# EAGLE library part STM32F042K6T6 (library PI_Shield_Library)
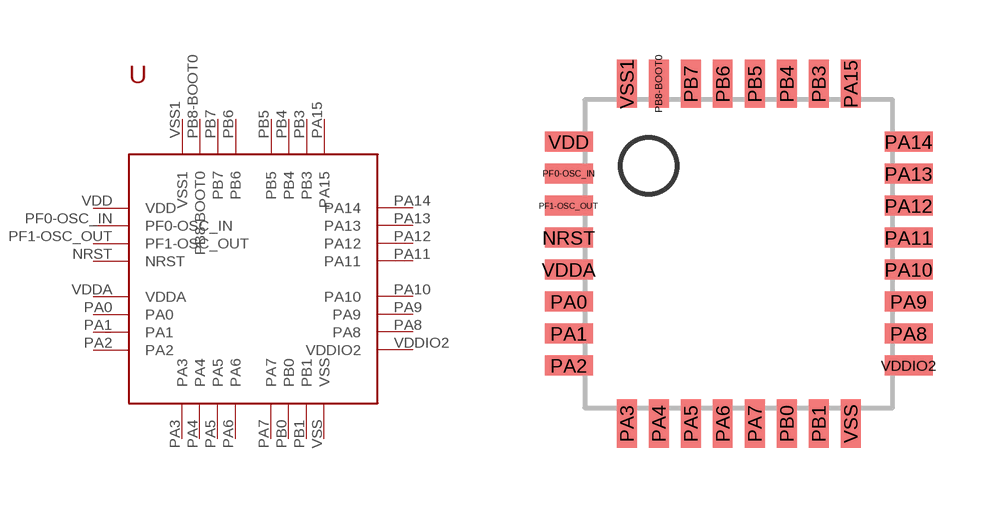
[diagram p2: symbol with the pads of STM32F042K6T6; footprint STM32F042K6T6]

Designator prefix -

## STM32F042K6T6  [STM32F042K6T6]
NRST  NRST
PA0  PA0
PA1  PA1
PA2  PA2
PA3  PA3
PA4  PA4
PA5  PA5
PA6  PA6
PA7  PA7
PA8  PA8
PA9  PA9
PA10  PA10
PA11  PA11
PA12  PA12
PA13  PA13
PA14  PA14
PA15  PA15
PB0  PB0
PB1  PB1
PB3  PB3
PB4  PB4
PB5  PB5
PB6  PB6
PB7  PB7
PB8-BOOT0  PB8-BOOT0
PF0-OSC_IN  PF0-OSC_IN
PF1-OSC_OUT  PF1-OSC_OUT
VDD  VDD
VDDA  VDDA
VDDIO2  VDDIO2
VSS  VSS
VSS1  VSS1

## Footprint STM32F042K6T6 (pad centres in mm)
smd 1.2 x 0.5: NRST 0,3.2; PA0 0,1.6; PA1 0,0.8; PA2 0,0; PA8 8.5,0.8; PA9 8.5,1.6; PA10 8.5,2.4; PA11 8.5,3.2; PA12 8.5,4; PA13 8.5,4.8; PA14 8.5,5.6; PF0-OSC_IN 0,4.8; PF1-OSC_OUT 0,4; VDD 0,5.6; VDDA 0,2.4; VDDIO2 8.5,0
smd 0.5 x 1.2: PA3 1.45,-1.45; PA4 2.25,-1.45; PA5 3.05,-1.45; PA6 3.85,-1.45; PA7 4.65,-1.45; PA15 7.05,7.05; PB0 5.45,-1.45; PB1 6.25,-1.45; PB3 6.25,7.05; PB4 5.45,7.05; PB5 4.65,7.05; PB6 3.85,7.05; PB7 3.05,7.05; PB8-BOOT0 2.25,7.05; VSS 7.05,-1.45; VSS1 1.45,7.05